# Altium integrated library NSC LDO.IntLib: 1229 symbols (part 19 of 28)
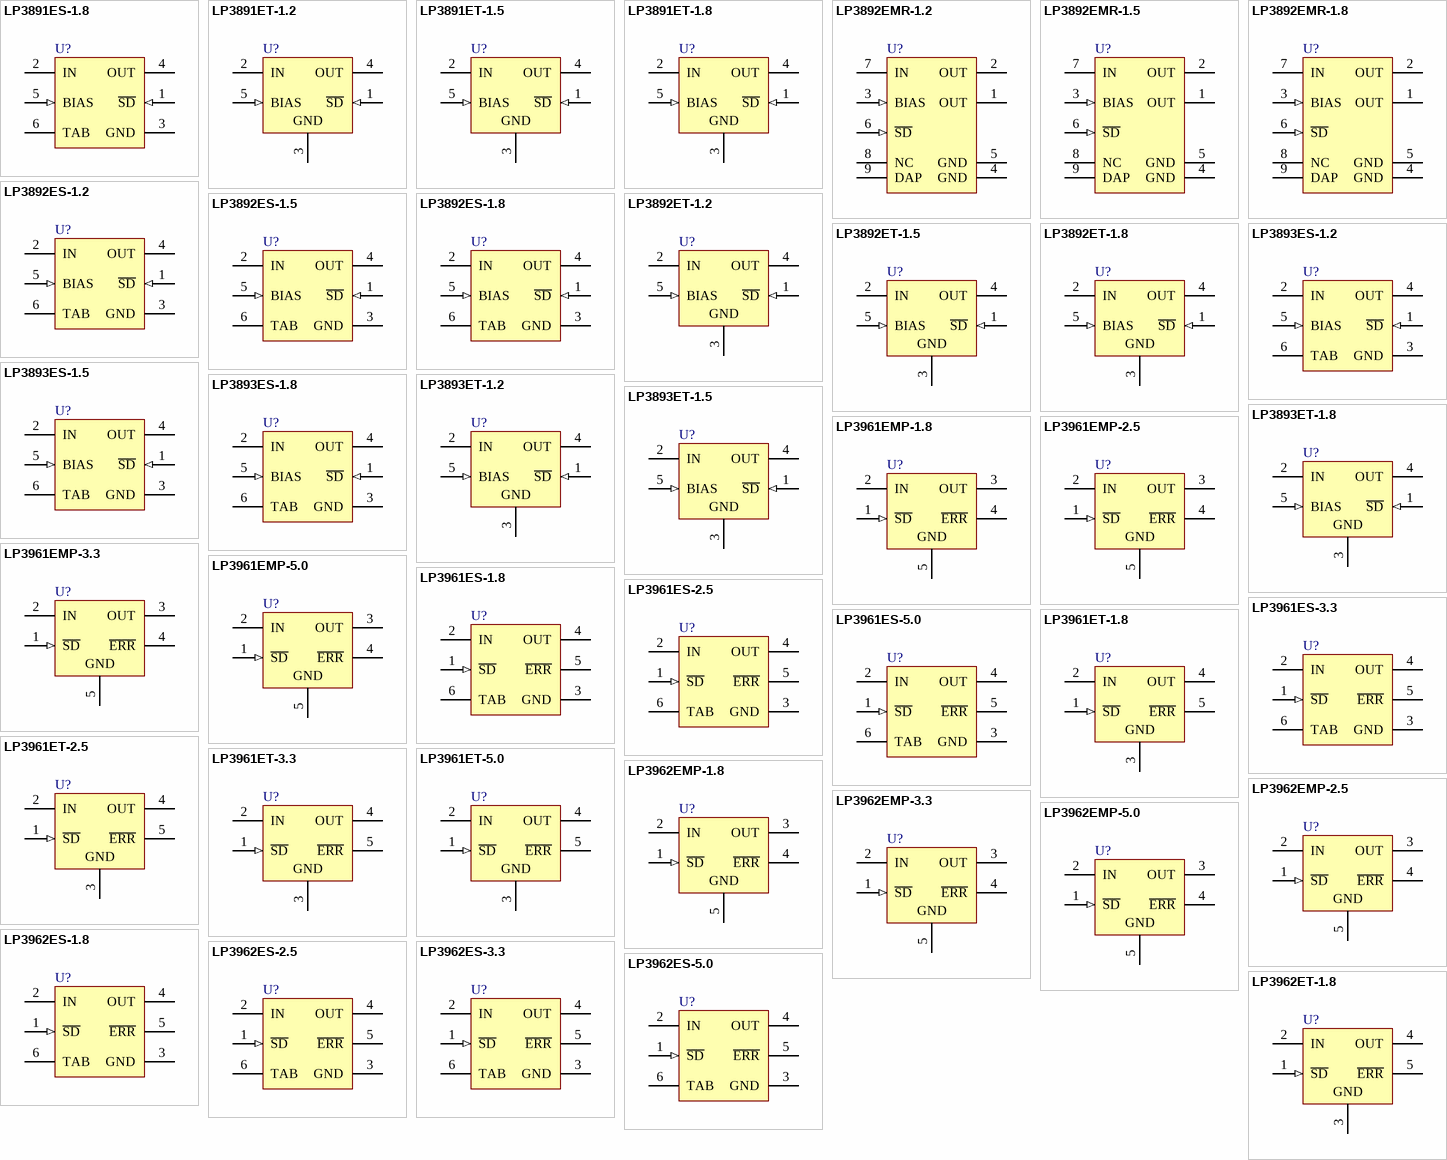
[diagram p49: symbols LP3891ES-1.8 to LP3962ET-1.8]

## LP3892ES-1.2
designator U?
1.5A Fast-Response Ultra Low Dropout Linear Regulators; PartNumber: LP3892ES-1.2; Manufacturer: National Semiconductor; CompType: LDO IC; PackageTopMarking: NSUZXYTTE#*LP3892ES*-1.2; PowerWise: N; Published: 4-Dec-2008; DatasheetVersion: Jun-2006; PackageVersion: revD, Apr-2005; PackageReference: TS5B; Publisher: Altium Limited; PackageDescription: TO-263, Molded, .400 x .390 x .180in, 5 Lead, .067in Pitch, Surface Mount; RoHS: O; PinCount: 5; DigiKeyPartNumber: LP3892ES-1.2-ND; Code_JEDEC: MO-169-AB; ComponentLink1Description: LP3892 Datasheet; ComponentLink1URL: http://www.national.com/ds/LP/LP3892.pdf; ComponentLink2Description: LP3892 Web Page; ComponentLink2URL: http://www.national.com/pf/LP/LP3892.html; ComponentLink3Description: TS5B Package Page; ComponentLink3URL: http://www.national.com/packaging/folders/ts5b.html
footprint TS5B_N (D2-PAK, 6-Leads, Body 8.6x10.2mm, Pitch 1.7mm, Lead Span 14.1mm, IPC Medium Density)
footprint TS5B_L (D2-PAK, 6-Leads, Body 8.6x10.2mm, Pitch 1.7mm, Lead Span 14.1mm, IPC High Density)
footprint TS5B_M (D2-PAK, 6-Leads, Body 8.6x10.2mm, Pitch 1.7mm, Lead Span 14.1mm, IPC Low Density)
pins: 1 ~{SD} (in), 2 IN (power), 3 GND (power), 4 OUT (power), 5 BIAS (in), 6 TAB (power)

## LP3892ES-1.5
designator U?
1.5A Fast-Response Ultra Low Dropout Linear Regulators; PartNumber: LP3892ES-1.5; Manufacturer: National Semiconductor; CompType: LDO IC; PackageTopMarking: NSUZXYTTE#*LP3892ES*-1.5; PowerWise: N; Published: 4-Dec-2008; DatasheetVersion: Jun-2006; PackageVersion: revD, Apr-2005; PackageReference: TS5B; Publisher: Altium Limited; PackageDescription: TO-263, Molded, .400 x .390 x .180in, 5 Lead, .067in Pitch, Surface Mount; RoHS: Y; PinCount: 5; DigiKeyPartNumber: LP3892ES-1.5-ND; Code_JEDEC: MO-169-AB; ComponentLink1Description: LP3892 Datasheet; ComponentLink1URL: http://www.national.com/ds/LP/LP3892.pdf; ComponentLink2Description: LP3892 Web Page; ComponentLink2URL: http://www.national.com/pf/LP/LP3892.html; ComponentLink3Description: TS5B Package Page; ComponentLink3URL: http://www.national.com/packaging/folders/ts5b.html
footprint TS5B_N (D2-PAK, 6-Leads, Body 8.6x10.2mm, Pitch 1.7mm, Lead Span 14.1mm, IPC Medium Density)
footprint TS5B_L (D2-PAK, 6-Leads, Body 8.6x10.2mm, Pitch 1.7mm, Lead Span 14.1mm, IPC High Density)
footprint TS5B_M (D2-PAK, 6-Leads, Body 8.6x10.2mm, Pitch 1.7mm, Lead Span 14.1mm, IPC Low Density)
pins: 1 ~{SD} (in), 2 IN (power), 3 GND (power), 4 OUT (power), 5 BIAS (in), 6 TAB (power)

## LP3892ES-1.8
designator U?
1.5A Fast-Response Ultra Low Dropout Linear Regulators; PartNumber: LP3892ES-1.8; Manufacturer: National Semiconductor; CompType: LDO IC; PackageTopMarking: NSUZXYTTE#*LP3892ES*-1.8; Published: 4-Dec-2008; DatasheetVersion: Jun-2006; PackageVersion: revD, Apr-2005; PackageReference: TS5B; Publisher: Altium Limited; PackageDescription: TO-263, Molded, .400 x .390 x .180in, 5 Lead, .067in Pitch, Surface Mount; RoHS: Y; PinCount: 5; DigiKeyPartNumber: LP3892ES-1.8-ND; Code_JEDEC: MO-169-AB; ComponentLink1Description: LP3892 Datasheet; ComponentLink1URL: http://www.national.com/ds/LP/LP3892.pdf; ComponentLink2Description: LP3892 Web Page; ComponentLink2URL: http://www.national.com/pf/LP/LP3892.html; ComponentLink3Description: TS5B Package Page; ComponentLink3URL: http://www.national.com/packaging/folders/ts5b.html
footprint TS5B_N (D2-PAK, 6-Leads, Body 8.6x10.2mm, Pitch 1.7mm, Lead Span 14.1mm, IPC Medium Density)
footprint TS5B_L (D2-PAK, 6-Leads, Body 8.6x10.2mm, Pitch 1.7mm, Lead Span 14.1mm, IPC High Density)
footprint TS5B_M (D2-PAK, 6-Leads, Body 8.6x10.2mm, Pitch 1.7mm, Lead Span 14.1mm, IPC Low Density)
pins: 1 ~{SD} (in), 2 IN (power), 3 GND (power), 4 OUT (power), 5 BIAS (in), 6 TAB (power)

## LP3892ET-1.2
designator U?
1.5A Fast-Response Ultra Low Dropout Linear Regulators; PartNumber: LP3892ET-1.2; Manufacturer: National Semiconductor; CompType: LDO IC; PackageTopMarking: NSUZXYTTE#*LP3892ET*-1.2; Published: 4-Dec-2008; DatasheetVersion: Jun-2006; PackageVersion: revA, Oct-1989; PackageReference: T05D; Publisher: Altium Limited; PackageDescription: TO-220, Molded, Stagger Bend, 5 Lead; RoHS: Y; PinCount: 5; DigiKeyPartNumber: LP3892ET-1.2-ND; ComponentLink1Description: LP3892 Datasheet; ComponentLink1URL: http://www.national.com/ds/LP/LP3892.pdf; ComponentLink2Description: LP3892 Web Page; ComponentLink2URL: http://www.national.com/pf/LP/LP3892.html; ComponentLink3Description: T05D Package Page; ComponentLink3URL: http://www.national.com/packaging/folders/t05d.html
footprint T05D (TO, Thru-Hole, Vertical, Heatsink Mounted; 5 Bent Staggered Leads; Pitch 1.7 mm)
pins: 1 ~{SD} (in), 2 IN (power), 3 GND (power), 4 OUT (power), 5 BIAS (in)

## LP3892ET-1.5
designator U?
1.5A Fast-Response Ultra Low Dropout Linear Regulators; PartNumber: LP3892ET-1.5; Manufacturer: National Semiconductor; CompType: LDO IC; PackageTopMarking: NSUZXYTTE#*LP3892ET*-1.5; Published: 4-Dec-2008; DatasheetVersion: Jun-2006; PackageVersion: revA, Oct-1989; PackageReference: T05D; Publisher: Altium Limited; PackageDescription: TO-220, Molded, Stagger Bend, 5 Lead; RoHS: Y; PinCount: 5; DigiKeyPartNumber: LP3892ET-1.5-ND; ComponentLink1Description: LP3892 Datasheet; ComponentLink1URL: http://www.national.com/ds/LP/LP3892.pdf; ComponentLink2Description: LP3892 Web Page; ComponentLink2URL: http://www.national.com/pf/LP/LP3892.html; ComponentLink3Description: T05D Package Page; ComponentLink3URL: http://www.national.com/packaging/folders/t05d.html
footprint T05D (TO, Thru-Hole, Vertical, Heatsink Mounted; 5 Bent Staggered Leads; Pitch 1.7 mm)
pins: 1 ~{SD} (in), 2 IN (power), 3 GND (power), 4 OUT (power), 5 BIAS (in)

## LP3892ET-1.8
designator U?
1.5A Fast-Response Ultra Low Dropout Linear Regulators; PartNumber: LP3892ET-1.8; Manufacturer: National Semiconductor; CompType: LDO IC; PackageTopMarking: NSUZXYTTE#*LP3892ET*-1.8; Published: 4-Dec-2008; DatasheetVersion: Jun-2006; PackageVersion: revA, Oct-1989; PackageReference: T05D; Publisher: Altium Limited; PackageDescription: TO-220, Molded, Stagger Bend, 5 Lead; RoHS: Y; PinCount: 5; DigiKeyPartNumber: LP3892ET-1.8-ND; ComponentLink1Description: LP3892 Datasheet; ComponentLink1URL: http://www.national.com/ds/LP/LP3892.pdf; ComponentLink2Description: LP3892 Web Page; ComponentLink2URL: http://www.national.com/pf/LP/LP3892.html; ComponentLink3Description: T05D Package Page; ComponentLink3URL: http://www.national.com/packaging/folders/t05d.html
footprint T05D (TO, Thru-Hole, Vertical, Heatsink Mounted; 5 Bent Staggered Leads; Pitch 1.7 mm)
pins: 1 ~{SD} (in), 2 IN (power), 3 GND (power), 4 OUT (power), 5 BIAS (in)

## LP3893ES-1.2
designator U?
3A Fast-Response Ultra Low Dropout Linear Regulators; PartNumber: LP3893ES-1.2; Manufacturer: National Semiconductor; CompType: LDO IC; PackageTopMarking: NSUZXYTTE#*LP3893ES*-1.2; PowerWise: N; Published: 4-Dec-2008; DatasheetVersion: Jun-2005; PackageVersion: revD, Apr-2005; PackageReference: TS5B; Publisher: Altium Limited; PackageDescription: TO-263, Molded, .400 x .390 x .180in, 5 Lead, .067in Pitch, Surface Mount; RoHS: Y; PinCount: 5; DigiKeyPartNumber: LP3893ES-1.2-ND; Code_JEDEC: MO-169-AB; ComponentLink1Description: LP3893 Datasheet; ComponentLink1URL: http://www.national.com/ds/LP/LP3893.pdf; ComponentLink2Description: LP3893 Web Page; ComponentLink2URL: http://www.national.com/pf/LP/LP3893.html; ComponentLink3Description: TS5B Package Page; ComponentLink3URL: http://www.national.com/packaging/folders/ts5b.html
footprint TS5B_N (D2-PAK, 6-Leads, Body 8.6x10.2mm, Pitch 1.7mm, Lead Span 14.1mm, IPC Medium Density)
footprint TS5B_L (D2-PAK, 6-Leads, Body 8.6x10.2mm, Pitch 1.7mm, Lead Span 14.1mm, IPC High Density)
footprint TS5B_M (D2-PAK, 6-Leads, Body 8.6x10.2mm, Pitch 1.7mm, Lead Span 14.1mm, IPC Low Density)
pins: 1 ~{SD} (in), 2 IN (power), 3 GND (power), 4 OUT (power), 5 BIAS (in), 6 TAB (power)

## LP3893ES-1.5
designator U?
3A Fast-Response Ultra Low Dropout Linear Regulators; PartNumber: LP3893ES-1.5; Manufacturer: National Semiconductor; CompType: LDO IC; PackageTopMarking: NSUZXYTTE#*LP3893ES*-1.5; Published: 4-Dec-2008; DatasheetVersion: Jun-2005; PackageVersion: revD, Apr-2005; PackageReference: TS5B; Publisher: Altium Limited; PackageDescription: TO-263, Molded, .400 x .390 x .180in, 5 Lead, .067in Pitch, Surface Mount; RoHS: Y; PinCount: 5; DigiKeyPartNumber: LP3893ES-1.5-ND; Code_JEDEC: MO-169-AB; ComponentLink1Description: LP3893 Datasheet; ComponentLink1URL: http://www.national.com/ds/LP/LP3893.pdf; ComponentLink2Description: LP3893 Web Page; ComponentLink2URL: http://www.national.com/pf/LP/LP3893.html; ComponentLink3Description: TS5B Package Page; ComponentLink3URL: http://www.national.com/packaging/folders/ts5b.html
footprint TS5B_N (D2-PAK, 6-Leads, Body 8.6x10.2mm, Pitch 1.7mm, Lead Span 14.1mm, IPC Medium Density)
footprint TS5B_L (D2-PAK, 6-Leads, Body 8.6x10.2mm, Pitch 1.7mm, Lead Span 14.1mm, IPC High Density)
footprint TS5B_M (D2-PAK, 6-Leads, Body 8.6x10.2mm, Pitch 1.7mm, Lead Span 14.1mm, IPC Low Density)
pins: 1 ~{SD} (in), 2 IN (power), 3 GND (power), 4 OUT (power), 5 BIAS (in), 6 TAB (power)

## LP3893ES-1.8
designator U?
3A Fast-Response Ultra Low Dropout Linear Regulators; PartNumber: LP3893ES-1.8; Manufacturer: National Semiconductor; CompType: LDO IC; PackageTopMarking: NSUZXYTTE#*LP3893ES*-1.8; Published: 4-Dec-2008; DatasheetVersion: Jun-2005; PackageVersion: revD, Apr-2005; PackageReference: TS5B; Publisher: Altium Limited; PackageDescription: TO-263, Molded, .400 x .390 x .180in, 5 Lead, .067in Pitch, Surface Mount; RoHS: Y; PinCount: 5; DigiKeyPartNumber: LP3893ES-1.8-ND; Code_JEDEC: MO-169-AB; ComponentLink1Description: LP3893 Datasheet; ComponentLink1URL: http://www.national.com/ds/LP/LP3893.pdf; ComponentLink2Description: LP3893 Web Page; ComponentLink2URL: http://www.national.com/pf/LP/LP3893.html; ComponentLink3Description: TS5B Package Page; ComponentLink3URL: http://www.national.com/packaging/folders/ts5b.html
footprint TS5B_N (D2-PAK, 6-Leads, Body 8.6x10.2mm, Pitch 1.7mm, Lead Span 14.1mm, IPC Medium Density)
footprint TS5B_L (D2-PAK, 6-Leads, Body 8.6x10.2mm, Pitch 1.7mm, Lead Span 14.1mm, IPC High Density)
footprint TS5B_M (D2-PAK, 6-Leads, Body 8.6x10.2mm, Pitch 1.7mm, Lead Span 14.1mm, IPC Low Density)
pins: 1 ~{SD} (in), 2 IN (power), 3 GND (power), 4 OUT (power), 5 BIAS (in), 6 TAB (power)

## LP3893ET-1.2
designator U?
3A Fast-Response Ultra Low Dropout Linear Regulators; PartNumber: LP3893ET-1.2; Manufacturer: National Semiconductor; CompType: LDO IC; PackageTopMarking: NSUZXYTTE#*LP3893ET*-1.2; Published: 4-Dec-2008; DatasheetVersion: Jun-2005; PackageVersion: revA, Oct-1989; PackageReference: T05D; Publisher: Altium Limited; PackageDescription: TO-220, Molded, Stagger Bend, 5 Lead; RoHS: Y; PinCount: 5; DigiKeyPartNumber: LP3893ET-1.2-ND; ComponentLink1Description: LP3893 Datasheet; ComponentLink1URL: http://www.national.com/ds/LP/LP3893.pdf; ComponentLink2Description: LP3893 Web Page; ComponentLink2URL: http://www.national.com/pf/LP/LP3893.html; ComponentLink3Description: T05D Package Page; ComponentLink3URL: http://www.national.com/packaging/folders/t05d.html
footprint T05D (TO, Thru-Hole, Vertical, Heatsink Mounted; 5 Bent Staggered Leads; Pitch 1.7 mm)
pins: 1 ~{SD} (in), 2 IN (power), 3 GND (power), 4 OUT (power), 5 BIAS (in)

## LP3893ET-1.5
designator U?
3A Fast-Response Ultra Low Dropout Linear Regulators; PartNumber: LP3893ET-1.5; Manufacturer: National Semiconductor; CompType: LDO IC; PackageTopMarking: NSUZXYTTE#*LP3893ET*-1.5; Published: 4-Dec-2008; DatasheetVersion: Jun-2005; PackageVersion: revA, Oct-1989; PackageReference: T05D; Publisher: Altium Limited; PackageDescription: TO-220, Molded, Stagger Bend, 5 Lead; RoHS: Y; PinCount: 5; DigiKeyPartNumber: LP3893ET-1.5-ND; ComponentLink1Description: LP3893 Datasheet; ComponentLink1URL: http://www.national.com/ds/LP/LP3893.pdf; ComponentLink2Description: LP3893 Web Page; ComponentLink2URL: http://www.national.com/pf/LP/LP3893.html; ComponentLink3Description: T05D Package Page; ComponentLink3URL: http://www.national.com/packaging/folders/t05d.html
footprint T05D (TO, Thru-Hole, Vertical, Heatsink Mounted; 5 Bent Staggered Leads; Pitch 1.7 mm)
pins: 1 ~{SD} (in), 2 IN (power), 3 GND (power), 4 OUT (power), 5 BIAS (in)

## LP3893ET-1.8
designator U?
3A Fast-Response Ultra Low Dropout Linear Regulators; PartNumber: LP3893ET-1.8; Manufacturer: National Semiconductor; CompType: LDO IC; PackageTopMarking: NSUZXYTTE#*LP3893ET*-1.8; Published: 4-Dec-2008; DatasheetVersion: Jun-2005; PackageVersion: revA, Oct-1989; PackageReference: T05D; Publisher: Altium Limited; PackageDescription: TO-220, Molded, Stagger Bend, 5 Lead; RoHS: Y; PinCount: 5; DigiKeyPartNumber: LP3893ET-1.8-ND; ComponentLink1Description: LP3893 Datasheet; ComponentLink1URL: http://www.national.com/ds/LP/LP3893.pdf; ComponentLink2Description: LP3893 Web Page; ComponentLink2URL: http://www.national.com/pf/LP/LP3893.html; ComponentLink3Description: T05D Package Page; ComponentLink3URL: http://www.national.com/packaging/folders/t05d.html
footprint T05D (TO, Thru-Hole, Vertical, Heatsink Mounted; 5 Bent Staggered Leads; Pitch 1.7 mm)
pins: 1 ~{SD} (in), 2 IN (power), 3 GND (power), 4 OUT (power), 5 BIAS (in)

## LP3961EMP-1.8
designator U?
800mA Fast Ultra Low Dropout Linear Regulator; PartNumber: LP3961EMP-1.8; Manufacturer: National Semiconductor; CompType: LDO IC; PackageTopMarking: XYTT*LBAB; PowerWise: N; Published: 4-Dec-2008; DatasheetVersion: Sep-2006; PackageVersion: revA, Jan-2000; PackageReference: MP05A; Publisher: Altium Limited; PackageDescription: Moldec SOT-223, 6.50 x 3.56 x 1.6mm Body, 5 Lead, 1.5mm Pitch; RoHS: Y; PinCount: 5; DigiKeyPartNumber: LP3961EMP-1.8CT-ND; Code_JEDEC: TO-261-AB; Code_IPC: SOT223-5; ComponentLink1Description: LP3961 Datasheet; ComponentLink1URL: http://www.national.com/ds/LP/LP3961.pdf; ComponentLink2Description: LP3961 Web Page; ComponentLink2URL: http://www.national.com/pf/LP/LP3961.html; ComponentLink3Description: MP05A Package Page; ComponentLink3URL: http://www.national.com/packaging/folders/mp05a.html
footprint MP05A_N (SOT223, 5-Leads, Body 6.5x3.5mm, Pitch 1.5mm, Lead Span 7mm, IPC Medium Density)
footprint MP05A_L (SOT223, 5-Leads, Body 6.5x3.5mm, Pitch 1.5mm, Lead Span 7mm, IPC High Density)
footprint MP05A_M (SOT223, 5-Leads, Body 6.5x3.5mm, Pitch 1.5mm, Lead Span 7mm, IPC Low Density)
pins: 1 ~{SD} (in), 2 IN (power), 3 OUT (power), 4 ~{ERR} (oc), 5 GND (power)

## LP3961EMP-2.5
designator U?
800mA Fast Ultra Low Dropout Linear Regulator; PartNumber: LP3961EMP-2.5; Manufacturer: National Semiconductor; CompType: LDO IC; PackageTopMarking: XYTT*LBBB; PowerWise: N; Published: 4-Dec-2008; DatasheetVersion: Sep-2006; PackageVersion: revA, Jan-2000; PackageReference: MP05A; Publisher: Altium Limited; PackageDescription: Moldec SOT-223, 6.50 x 3.56 x 1.6mm Body, 5 Lead, 1.5mm Pitch; RoHS: O; PinCount: 5; DigiKeyPartNumber: LP3961EMP-2.5CT-ND; Code_JEDEC: TO-261-AB; Code_IPC: SOT223-5; ComponentLink1Description: LP3961 Datasheet; ComponentLink1URL: http://www.national.com/ds/LP/LP3961.pdf; ComponentLink2Description: LP3961 Web Page; ComponentLink2URL: http://www.national.com/pf/LP/LP3961.html; ComponentLink3Description: MP05A Package Page; ComponentLink3URL: http://www.national.com/packaging/folders/mp05a.html
footprint MP05A_N (SOT223, 5-Leads, Body 6.5x3.5mm, Pitch 1.5mm, Lead Span 7mm, IPC Medium Density)
footprint MP05A_L (SOT223, 5-Leads, Body 6.5x3.5mm, Pitch 1.5mm, Lead Span 7mm, IPC High Density)
footprint MP05A_M (SOT223, 5-Leads, Body 6.5x3.5mm, Pitch 1.5mm, Lead Span 7mm, IPC Low Density)
pins: 1 ~{SD} (in), 2 IN (power), 3 OUT (power), 4 ~{ERR} (oc), 5 GND (power)

## LP3961EMP-3.3
designator U?
800mA Fast Ultra Low Dropout Linear Regulator; PartNumber: LP3961EMP-3.3; Manufacturer: National Semiconductor; CompType: LDO IC; PackageTopMarking: XYTT*LAZB; PowerWise: N; Published: 4-Dec-2008; DatasheetVersion: Sep-2006; PackageVersion: revA, Jan-2000; PackageReference: MP05A; Publisher: Altium Limited; PackageDescription: Moldec SOT-223, 6.50 x 3.56 x 1.6mm Body, 5 Lead, 1.5mm Pitch; RoHS: O; PinCount: 5; DigiKeyPartNumber: LP3961EMP-3.3CT-ND; Code_JEDEC: TO-261-AB; Code_IPC: SOT223-5; ComponentLink1Description: LP3961 Datasheet; ComponentLink1URL: http://www.national.com/ds/LP/LP3961.pdf; ComponentLink2Description: LP3961 Web Page; ComponentLink2URL: http://www.national.com/pf/LP/LP3961.html; ComponentLink3Description: MP05A Package Page; ComponentLink3URL: http://www.national.com/packaging/folders/mp05a.html
footprint MP05A_N (SOT223, 5-Leads, Body 6.5x3.5mm, Pitch 1.5mm, Lead Span 7mm, IPC Medium Density)
footprint MP05A_L (SOT223, 5-Leads, Body 6.5x3.5mm, Pitch 1.5mm, Lead Span 7mm, IPC High Density)
footprint MP05A_M (SOT223, 5-Leads, Body 6.5x3.5mm, Pitch 1.5mm, Lead Span 7mm, IPC Low Density)
pins: 1 ~{SD} (in), 2 IN (power), 3 OUT (power), 4 ~{ERR} (oc), 5 GND (power)

## LP3961EMP-5.0
designator U?
800mA Fast Ultra Low Dropout Linear Regulator; PartNumber: LP3961EMP-5.0; Manufacturer: National Semiconductor; CompType: LDO IC; PackageTopMarking: XYTT*LBSB; PowerWise: N; Published: 4-Dec-2008; DatasheetVersion: Sep-2006; PackageVersion: revA, Jan-2000; PackageReference: MP05A; Publisher: Altium Limited; PackageDescription: Moldec SOT-223, 6.50 x 3.56 x 1.6mm Body, 5 Lead, 1.5mm Pitch; RoHS: O; PinCount: 5; DigiKeyPartNumber: LP3961EMP-5.0CT-ND; Code_JEDEC: TO-261-AB; Code_IPC: SOT223-5; ComponentLink1Description: LP3961 Datasheet; ComponentLink1URL: http://www.national.com/ds/LP/LP3961.pdf; ComponentLink2Description: LP3961 Web Page; ComponentLink2URL: http://www.national.com/pf/LP/LP3961.html; ComponentLink3Description: MP05A Package Page; ComponentLink3URL: http://www.national.com/packaging/folders/mp05a.html
footprint MP05A_N (SOT223, 5-Leads, Body 6.5x3.5mm, Pitch 1.5mm, Lead Span 7mm, IPC Medium Density)
footprint MP05A_L (SOT223, 5-Leads, Body 6.5x3.5mm, Pitch 1.5mm, Lead Span 7mm, IPC High Density)
footprint MP05A_M (SOT223, 5-Leads, Body 6.5x3.5mm, Pitch 1.5mm, Lead Span 7mm, IPC Low Density)
pins: 1 ~{SD} (in), 2 IN (power), 3 OUT (power), 4 ~{ERR} (oc), 5 GND (power)

## LP3961ES-1.8
designator U?
800mA Fast Ultra Low Dropout Linear Regulator; PartNumber: LP3961ES-1.8; Manufacturer: National Semiconductor; CompType: LDO IC; PackageTopMarking: NSUZXYTTE#*LP3961ES*-1.8; PowerWise: N; Published: 4-Dec-2008; DatasheetVersion: Sep-2006; PackageVersion: revD, Apr-2005; PackageReference: TS5B; Publisher: Altium Limited; PackageDescription: TO-263, Molded, .400 x .390 x .180in, 5 Lead, .067in Pitch, Surface Mount; RoHS: O; PinCount: 5; DigiKeyPartNumber: LP3961ES-1.8-ND; Code_JEDEC: MO-169-AB; ComponentLink1Description: LP3961 Datasheet; ComponentLink1URL: http://www.national.com/ds/LP/LP3961.pdf; ComponentLink2Description: LP3961 Web Page; ComponentLink2URL: http://www.national.com/pf/LP/LP3961.html; ComponentLink3Description: TS5B Package Page; ComponentLink3URL: http://www.national.com/packaging/folders/ts5b.html
footprint TS5B_N (D2-PAK, 6-Leads, Body 8.6x10.2mm, Pitch 1.7mm, Lead Span 14.1mm, IPC Medium Density)
footprint TS5B_L (D2-PAK, 6-Leads, Body 8.6x10.2mm, Pitch 1.7mm, Lead Span 14.1mm, IPC High Density)
footprint TS5B_M (D2-PAK, 6-Leads, Body 8.6x10.2mm, Pitch 1.7mm, Lead Span 14.1mm, IPC Low Density)
pins: 1 ~{SD} (in), 2 IN (power), 3 GND (power), 4 OUT (power), 5 ~{ERR} (oc), 6 TAB (power)

## LP3961ES-2.5
designator U?
800mA Fast Ultra Low Dropout Linear Regulator; PartNumber: LP3961ES-2.5; Manufacturer: National Semiconductor; CompType: LDO IC; PackageTopMarking: NSUZXYTTE#*LP3961ES*-2.5; PowerWise: N; Published: 4-Dec-2008; DatasheetVersion: Sep-2006; PackageVersion: revD, Apr-2005; PackageReference: TS5B; Publisher: Altium Limited; PackageDescription: TO-263, Molded, .400 x .390 x .180in, 5 Lead, .067in Pitch, Surface Mount; RoHS: O; PinCount: 5; DigiKeyPartNumber: LP3961ES-2.5-ND; Code_JEDEC: MO-169-AB; ComponentLink1Description: LP3961 Datasheet; ComponentLink1URL: http://www.national.com/ds/LP/LP3961.pdf; ComponentLink2Description: LP3961 Web Page; ComponentLink2URL: http://www.national.com/pf/LP/LP3961.html; ComponentLink3Description: TS5B Package Page; ComponentLink3URL: http://www.national.com/packaging/folders/ts5b.html
footprint TS5B_N (D2-PAK, 6-Leads, Body 8.6x10.2mm, Pitch 1.7mm, Lead Span 14.1mm, IPC Medium Density)
footprint TS5B_L (D2-PAK, 6-Leads, Body 8.6x10.2mm, Pitch 1.7mm, Lead Span 14.1mm, IPC High Density)
footprint TS5B_M (D2-PAK, 6-Leads, Body 8.6x10.2mm, Pitch 1.7mm, Lead Span 14.1mm, IPC Low Density)
pins: 1 ~{SD} (in), 2 IN (power), 3 GND (power), 4 OUT (power), 5 ~{ERR} (oc), 6 TAB (power)

## LP3961ES-3.3
designator U?
800mA Fast Ultra Low Dropout Linear Regulator; PartNumber: LP3961ES-3.3; Manufacturer: National Semiconductor; CompType: LDO IC; PackageTopMarking: NSUZXYTTE#*LP3961ES*-3.3; PowerWise: N; Published: 4-Dec-2008; DatasheetVersion: Sep-2006; PackageVersion: revD, Apr-2005; PackageReference: TS5B; Publisher: Altium Limited; PackageDescription: TO-263, Molded, .400 x .390 x .180in, 5 Lead, .067in Pitch, Surface Mount; RoHS: Y; PinCount: 5; DigiKeyPartNumber: LP3961ES-3.3-ND; Code_JEDEC: MO-169-AB; ComponentLink1Description: LP3961 Datasheet; ComponentLink1URL: http://www.national.com/ds/LP/LP3961.pdf; ComponentLink2Description: LP3961 Web Page; ComponentLink2URL: http://www.national.com/pf/LP/LP3961.html; ComponentLink3Description: TS5B Package Page; ComponentLink3URL: http://www.national.com/packaging/folders/ts5b.html
footprint TS5B_N (D2-PAK, 6-Leads, Body 8.6x10.2mm, Pitch 1.7mm, Lead Span 14.1mm, IPC Medium Density)
footprint TS5B_L (D2-PAK, 6-Leads, Body 8.6x10.2mm, Pitch 1.7mm, Lead Span 14.1mm, IPC High Density)
footprint TS5B_M (D2-PAK, 6-Leads, Body 8.6x10.2mm, Pitch 1.7mm, Lead Span 14.1mm, IPC Low Density)
pins: 1 ~{SD} (in), 2 IN (power), 3 GND (power), 4 OUT (power), 5 ~{ERR} (oc), 6 TAB (power)

## LP3961ES-5.0
designator U?
800mA Fast Ultra Low Dropout Linear Regulator; PartNumber: LP3961ES-5.0; Manufacturer: National Semiconductor; CompType: LDO IC; PackageTopMarking: NSUZXYTTE#*LP3961ES*-5.0; Published: 4-Dec-2008; DatasheetVersion: Sep-2006; PackageVersion: revD, Apr-2005; PackageReference: TS5B; Publisher: Altium Limited; PackageDescription: TO-263, Molded, .400 x .390 x .180in, 5 Lead, .067in Pitch, Surface Mount; RoHS: Y; PinCount: 5; DigiKeyPartNumber: LP3961ES-5.0-ND; Code_JEDEC: MO-169-AB; ComponentLink1Description: LP3961 Datasheet; ComponentLink1URL: http://www.national.com/ds/LP/LP3961.pdf; ComponentLink2Description: LP3961 Web Page; ComponentLink2URL: http://www.national.com/pf/LP/LP3961.html; ComponentLink3Description: TS5B Package Page; ComponentLink3URL: http://www.national.com/packaging/folders/ts5b.html
footprint TS5B_N (D2-PAK, 6-Leads, Body 8.6x10.2mm, Pitch 1.7mm, Lead Span 14.1mm, IPC Medium Density)
footprint TS5B_L (D2-PAK, 6-Leads, Body 8.6x10.2mm, Pitch 1.7mm, Lead Span 14.1mm, IPC High Density)
footprint TS5B_M (D2-PAK, 6-Leads, Body 8.6x10.2mm, Pitch 1.7mm, Lead Span 14.1mm, IPC Low Density)
pins: 1 ~{SD} (in), 2 IN (power), 3 GND (power), 4 OUT (power), 5 ~{ERR} (oc), 6 TAB (power)

## LP3961ET-1.8
designator U?
800mA Fast Ultra Low Dropout Linear Regulator; PartNumber: LP3961ET-1.8; Manufacturer: National Semiconductor; CompType: LDO IC; PackageTopMarking: NSUZXYTTE#*LP3961ET*-1.8; Published: 4-Dec-2008; DatasheetVersion: Sep-2006; PackageVersion: revA, Oct-1989; PackageReference: T05D; Publisher: Altium Limited; PackageDescription: TO-220, Molded, Stagger Bend, 5 Lead; RoHS: Y; PinCount: 5; DigiKeyPartNumber: LP3961ET-1.8-ND; ComponentLink1Description: LP3961 Datasheet; ComponentLink1URL: http://www.national.com/ds/LP/LP3961.pdf; ComponentLink2Description: LP3961 Web Page; ComponentLink2URL: http://www.national.com/pf/LP/LP3961.html; ComponentLink3Description: T05D Package Page; ComponentLink3URL: http://www.national.com/packaging/folders/t05d.html
footprint T05D (TO, Thru-Hole, Vertical, Heatsink Mounted; 5 Bent Staggered Leads; Pitch 1.7 mm)
pins: 1 ~{SD} (in), 2 IN (power), 3 GND (power), 4 OUT (power), 5 ~{ERR} (oc)

## LP3961ET-2.5
designator U?
800mA Fast Ultra Low Dropout Linear Regulator; PartNumber: LP3961ET-2.5; Manufacturer: National Semiconductor; CompType: LDO IC; PackageTopMarking: NSUZXYTTE#*LP3961ET*-2.5; Published: 4-Dec-2008; DatasheetVersion: Sep-2006; PackageVersion: revA, Oct-1989; PackageReference: T05D; Publisher: Altium Limited; PackageDescription: TO-220, Molded, Stagger Bend, 5 Lead; RoHS: Y; PinCount: 5; DigiKeyPartNumber: LP3961ET-2.5-ND; ComponentLink1Description: LP3961 Datasheet; ComponentLink1URL: http://www.national.com/ds/LP/LP3961.pdf; ComponentLink2Description: LP3961 Web Page; ComponentLink2URL: http://www.national.com/pf/LP/LP3961.html; ComponentLink3Description: T05D Package Page; ComponentLink3URL: http://www.national.com/packaging/folders/t05d.html
footprint T05D (TO, Thru-Hole, Vertical, Heatsink Mounted; 5 Bent Staggered Leads; Pitch 1.7 mm)
pins: 1 ~{SD} (in), 2 IN (power), 3 GND (power), 4 OUT (power), 5 ~{ERR} (oc)

## LP3961ET-3.3
designator U?
800mA Fast Ultra Low Dropout Linear Regulator; PartNumber: LP3961ET-3.3; Manufacturer: National Semiconductor; CompType: LDO IC; PackageTopMarking: NSUZXYTTE#*LP3961ET*-3.3; Published: 4-Dec-2008; DatasheetVersion: Sep-2006; PackageVersion: revA, Oct-1989; PackageReference: T05D; Publisher: Altium Limited; PackageDescription: TO-220, Molded, Stagger Bend, 5 Lead; RoHS: Y; PinCount: 5; DigiKeyPartNumber: LP3961ET-3.3-ND; ComponentLink1Description: LP3961 Datasheet; ComponentLink1URL: http://www.national.com/ds/LP/LP3961.pdf; ComponentLink2Description: LP3961 Web Page; ComponentLink2URL: http://www.national.com/pf/LP/LP3961.html; ComponentLink3Description: T05D Package Page; ComponentLink3URL: http://www.national.com/packaging/folders/t05d.html
footprint T05D (TO, Thru-Hole, Vertical, Heatsink Mounted; 5 Bent Staggered Leads; Pitch 1.7 mm)
pins: 1 ~{SD} (in), 2 IN (power), 3 GND (power), 4 OUT (power), 5 ~{ERR} (oc)

## LP3961ET-5.0
designator U?
800mA Fast Ultra Low Dropout Linear Regulator; PartNumber: LP3961ET-5.0; Manufacturer: National Semiconductor; CompType: LDO IC; PackageTopMarking: NSUZXYTTE#*LP3961ET*-5.0; Published: 4-Dec-2008; DatasheetVersion: Sep-2006; PackageVersion: revA, Oct-1989; PackageReference: T05D; Publisher: Altium Limited; PackageDescription: TO-220, Molded, Stagger Bend, 5 Lead; RoHS: Y; PinCount: 5; DigiKeyPartNumber: LP3961ET-5.0-ND; ComponentLink1Description: LP3961 Datasheet; ComponentLink1URL: http://www.national.com/ds/LP/LP3961.pdf; ComponentLink2Description: LP3961 Web Page; ComponentLink2URL: http://www.national.com/pf/LP/LP3961.html; ComponentLink3Description: T05D Package Page; ComponentLink3URL: http://www.national.com/packaging/folders/t05d.html
footprint T05D (TO, Thru-Hole, Vertical, Heatsink Mounted; 5 Bent Staggered Leads; Pitch 1.7 mm)
pins: 1 ~{SD} (in), 2 IN (power), 3 GND (power), 4 OUT (power), 5 ~{ERR} (oc)

## LP3962EMP-1.8
designator U?
1.5A Fast Ultra Low Dropout Linear Regulator; PartNumber: LP3962EMP-1.8; Manufacturer: National Semiconductor; CompType: LDO IC; PackageTopMarking: XYTT*LBCB; PowerWise: N; Published: 4-Dec-2008; DatasheetVersion: Sep-2006; PackageVersion: revA, Jan-2000; PackageReference: MP05A; Publisher: Altium Limited; PackageDescription: Moldec SOT-223, 6.50 x 3.56 x 1.6mm Body, 5 Lead, 1.5mm Pitch; RoHS: Y; PinCount: 5; DigiKeyPartNumber: LP3962EMP-1.8CT-ND; Code_JEDEC: TO-261-AB; Code_IPC: SOT223-5; ComponentLink1Description: LP3962 Datasheet; ComponentLink1URL: http://www.national.com/ds/LP/LP3962.pdf; ComponentLink2Description: LP3962 Web Page; ComponentLink2URL: http://www.national.com/pf/LP/LP3962.html; ComponentLink3Description: MP05A Package Page; ComponentLink3URL: http://www.national.com/packaging/folders/mp05a.html
footprint MP05A_N (SOT223, 5-Leads, Body 6.5x3.5mm, Pitch 1.5mm, Lead Span 7mm, IPC Medium Density)
footprint MP05A_L (SOT223, 5-Leads, Body 6.5x3.5mm, Pitch 1.5mm, Lead Span 7mm, IPC High Density)
footprint MP05A_M (SOT223, 5-Leads, Body 6.5x3.5mm, Pitch 1.5mm, Lead Span 7mm, IPC Low Density)
pins: 1 ~{SD} (in), 2 IN (power), 3 OUT (power), 4 ~{ERR} (oc), 5 GND (power)

## LP3962EMP-2.5
designator U?
1.5A Fast Ultra Low Dropout Linear Regulator; PartNumber: LP3962EMP-2.5; Manufacturer: National Semiconductor; CompType: LDO IC; PackageTopMarking: XYTT*LBDB; PowerWise: N; Published: 4-Dec-2008; DatasheetVersion: Sep-2006; PackageVersion: revA, Jan-2000; PackageReference: MP05A; Publisher: Altium Limited; PackageDescription: Moldec SOT-223, 6.50 x 3.56 x 1.6mm Body, 5 Lead, 1.5mm Pitch; RoHS: O; PinCount: 5; DigiKeyPartNumber: LP3962EMP-2.5CT-ND; Code_JEDEC: TO-261-AB; Code_IPC: SOT223-5; ComponentLink1Description: LP3962 Datasheet; ComponentLink1URL: http://www.national.com/ds/LP/LP3962.pdf; ComponentLink2Description: LP3962 Web Page; ComponentLink2URL: http://www.national.com/pf/LP/LP3962.html; ComponentLink3Description: MP05A Package Page; ComponentLink3URL: http://www.national.com/packaging/folders/mp05a.html
footprint MP05A_N (SOT223, 5-Leads, Body 6.5x3.5mm, Pitch 1.5mm, Lead Span 7mm, IPC Medium Density)
footprint MP05A_L (SOT223, 5-Leads, Body 6.5x3.5mm, Pitch 1.5mm, Lead Span 7mm, IPC High Density)
footprint MP05A_M (SOT223, 5-Leads, Body 6.5x3.5mm, Pitch 1.5mm, Lead Span 7mm, IPC Low Density)
pins: 1 ~{SD} (in), 2 IN (power), 3 OUT (power), 4 ~{ERR} (oc), 5 GND (power)

## LP3962EMP-3.3
designator U?
1.5A Fast Ultra Low Dropout Linear Regulator; PartNumber: LP3962EMP-3.3; Manufacturer: National Semiconductor; CompType: LDO IC; PackageTopMarking: XYTT*LBEB; PowerWise: N; Published: 4-Dec-2008; DatasheetVersion: Sep-2006; PackageVersion: revA, Jan-2000; PackageReference: MP05A; Publisher: Altium Limited; PackageDescription: Moldec SOT-223, 6.50 x 3.56 x 1.6mm Body, 5 Lead, 1.5mm Pitch; RoHS: O; PinCount: 5; DigiKeyPartNumber: LP3962EMP-3.3CT-ND; Code_JEDEC: TO-261-AB; Code_IPC: SOT223-5; ComponentLink1Description: LP3962 Datasheet; ComponentLink1URL: http://www.national.com/ds/LP/LP3962.pdf; ComponentLink2Description: LP3962 Web Page; ComponentLink2URL: http://www.national.com/pf/LP/LP3962.html; ComponentLink3Description: MP05A Package Page; ComponentLink3URL: http://www.national.com/packaging/folders/mp05a.html
footprint MP05A_N (SOT223, 5-Leads, Body 6.5x3.5mm, Pitch 1.5mm, Lead Span 7mm, IPC Medium Density)
footprint MP05A_L (SOT223, 5-Leads, Body 6.5x3.5mm, Pitch 1.5mm, Lead Span 7mm, IPC High Density)
footprint MP05A_M (SOT223, 5-Leads, Body 6.5x3.5mm, Pitch 1.5mm, Lead Span 7mm, IPC Low Density)
pins: 1 ~{SD} (in), 2 IN (power), 3 OUT (power), 4 ~{ERR} (oc), 5 GND (power)

## LP3962EMP-5.0
designator U?
1.5A Fast Ultra Low Dropout Linear Regulator; PartNumber: LP3962EMP-5.0; Manufacturer: National Semiconductor; CompType: LDO IC; PackageTopMarking: XYTT*LBTB; Published: 4-Dec-2008; DatasheetVersion: Sep-2006; PackageVersion: revA, Jan-2000; PackageReference: MP05A; Publisher: Altium Limited; PackageDescription: Moldec SOT-223, 6.50 x 3.56 x 1.6mm Body, 5 Lead, 1.5mm Pitch; RoHS: Y; PinCount: 5; DigiKeyPartNumber: LP3962EMP-5.0CT-ND; Code_JEDEC: TO-261-AB; Code_IPC: SOT223-5; ComponentLink1Description: LP3962 Datasheet; ComponentLink1URL: http://www.national.com/ds/LP/LP3962.pdf; ComponentLink2Description: LP3962 Web Page; ComponentLink2URL: http://www.national.com/pf/LP/LP3962.html; ComponentLink3Description: MP05A Package Page; ComponentLink3URL: http://www.national.com/packaging/folders/mp05a.html
footprint MP05A_N (SOT223, 5-Leads, Body 6.5x3.5mm, Pitch 1.5mm, Lead Span 7mm, IPC Medium Density)
footprint MP05A_L (SOT223, 5-Leads, Body 6.5x3.5mm, Pitch 1.5mm, Lead Span 7mm, IPC High Density)
footprint MP05A_M (SOT223, 5-Leads, Body 6.5x3.5mm, Pitch 1.5mm, Lead Span 7mm, IPC Low Density)
pins: 1 ~{SD} (in), 2 IN (power), 3 OUT (power), 4 ~{ERR} (oc), 5 GND (power)

## LP3962ES-1.8
designator U?
1.5A Fast Ultra Low Dropout Linear Regulator; PartNumber: LP3962ES-1.8; Manufacturer: National Semiconductor; CompType: LDO IC; PackageTopMarking: NSUZXYTTE#*LP3962ES*-1.8; PowerWise: N; Published: 4-Dec-2008; DatasheetVersion: Sep-2006; PackageVersion: revD, Apr-2005; PackageReference: TS5B; Publisher: Altium Limited; PackageDescription: TO-263, Molded, .400 x .390 x .180in, 5 Lead, .067in Pitch, Surface Mount; RoHS: O; PinCount: 5; DigiKeyPartNumber: LP3962ES-1.8-ND; Code_JEDEC: MO-169-AB; ComponentLink1Description: LP3962 Datasheet; ComponentLink1URL: http://www.national.com/ds/LP/LP3962.pdf; ComponentLink2Description: LP3962 Web Page; ComponentLink2URL: http://www.national.com/pf/LP/LP3962.html; ComponentLink3Description: TS5B Package Page; ComponentLink3URL: http://www.national.com/packaging/folders/ts5b.html
footprint TS5B_N (D2-PAK, 6-Leads, Body 8.6x10.2mm, Pitch 1.7mm, Lead Span 14.1mm, IPC Medium Density)
footprint TS5B_L (D2-PAK, 6-Leads, Body 8.6x10.2mm, Pitch 1.7mm, Lead Span 14.1mm, IPC High Density)
footprint TS5B_M (D2-PAK, 6-Leads, Body 8.6x10.2mm, Pitch 1.7mm, Lead Span 14.1mm, IPC Low Density)
pins: 1 ~{SD} (in), 2 IN (power), 3 GND (power), 4 OUT (power), 5 ~{ERR} (oc), 6 TAB (power)

## LP3962ES-2.5
designator U?
1.5A Fast Ultra Low Dropout Linear Regulator; PartNumber: LP3962ES-2.5; Manufacturer: National Semiconductor; CompType: LDO IC; PackageTopMarking: NSUZXYTTE#*LP3962ES*-2.5; PowerWise: N; Published: 4-Dec-2008; DatasheetVersion: Sep-2006; PackageVersion: revD, Apr-2005; PackageReference: TS5B; Publisher: Altium Limited; PackageDescription: TO-263, Molded, .400 x .390 x .180in, 5 Lead, .067in Pitch, Surface Mount; RoHS: O; PinCount: 5; DigiKeyPartNumber: LP3962ES-2.5-ND; Code_JEDEC: MO-169-AB; ComponentLink1Description: LP3962 Datasheet; ComponentLink1URL: http://www.national.com/ds/LP/LP3962.pdf; ComponentLink2Description: LP3962 Web Page; ComponentLink2URL: http://www.national.com/pf/LP/LP3962.html; ComponentLink3Description: TS5B Package Page; ComponentLink3URL: http://www.national.com/packaging/folders/ts5b.html
footprint TS5B_N (D2-PAK, 6-Leads, Body 8.6x10.2mm, Pitch 1.7mm, Lead Span 14.1mm, IPC Medium Density)
footprint TS5B_L (D2-PAK, 6-Leads, Body 8.6x10.2mm, Pitch 1.7mm, Lead Span 14.1mm, IPC High Density)
footprint TS5B_M (D2-PAK, 6-Leads, Body 8.6x10.2mm, Pitch 1.7mm, Lead Span 14.1mm, IPC Low Density)
pins: 1 ~{SD} (in), 2 IN (power), 3 GND (power), 4 OUT (power), 5 ~{ERR} (oc), 6 TAB (power)

## LP3962ES-3.3
designator U?
1.5A Fast Ultra Low Dropout Linear Regulator; PartNumber: LP3962ES-3.3; Manufacturer: National Semiconductor; CompType: LDO IC; PackageTopMarking: NSUZXYTTE#*LP3962ES*-3.3; PowerWise: N; Published: 4-Dec-2008; DatasheetVersion: Sep-2006; PackageVersion: revD, Apr-2005; PackageReference: TS5B; Publisher: Altium Limited; PackageDescription: TO-263, Molded, .400 x .390 x .180in, 5 Lead, .067in Pitch, Surface Mount; RoHS: O; PinCount: 5; DigiKeyPartNumber: LP3962ES-3.3-ND; Code_JEDEC: MO-169-AB; ComponentLink1Description: LP3962 Datasheet; ComponentLink1URL: http://www.national.com/ds/LP/LP3962.pdf; ComponentLink2Description: LP3962 Web Page; ComponentLink2URL: http://www.national.com/pf/LP/LP3962.html; ComponentLink3Description: TS5B Package Page; ComponentLink3URL: http://www.national.com/packaging/folders/ts5b.html
footprint TS5B_N (D2-PAK, 6-Leads, Body 8.6x10.2mm, Pitch 1.7mm, Lead Span 14.1mm, IPC Medium Density)
footprint TS5B_L (D2-PAK, 6-Leads, Body 8.6x10.2mm, Pitch 1.7mm, Lead Span 14.1mm, IPC High Density)
footprint TS5B_M (D2-PAK, 6-Leads, Body 8.6x10.2mm, Pitch 1.7mm, Lead Span 14.1mm, IPC Low Density)
pins: 1 ~{SD} (in), 2 IN (power), 3 GND (power), 4 OUT (power), 5 ~{ERR} (oc), 6 TAB (power)

## LP3962ES-5.0
designator U?
1.5A Fast Ultra Low Dropout Linear Regulator; PartNumber: LP3962ES-5.0; Manufacturer: National Semiconductor; CompType: LDO IC; PackageTopMarking: NSUZXYTTE#*LP3962ES*-5.0; Published: 4-Dec-2008; DatasheetVersion: Sep-2006; PackageVersion: revD, Apr-2005; PackageReference: TS5B; Publisher: Altium Limited; PackageDescription: TO-263, Molded, .400 x .390 x .180in, 5 Lead, .067in Pitch, Surface Mount; RoHS: Y; PinCount: 5; DigiKeyPartNumber: LP3962ES-5.0-ND; Code_JEDEC: MO-169-AB; ComponentLink1Description: LP3962 Datasheet; ComponentLink1URL: http://www.national.com/ds/LP/LP3962.pdf; ComponentLink2Description: LP3962 Web Page; ComponentLink2URL: http://www.national.com/pf/LP/LP3962.html; ComponentLink3Description: TS5B Package Page; ComponentLink3URL: http://www.national.com/packaging/folders/ts5b.html
footprint TS5B_N (D2-PAK, 6-Leads, Body 8.6x10.2mm, Pitch 1.7mm, Lead Span 14.1mm, IPC Medium Density)
footprint TS5B_L (D2-PAK, 6-Leads, Body 8.6x10.2mm, Pitch 1.7mm, Lead Span 14.1mm, IPC High Density)
footprint TS5B_M (D2-PAK, 6-Leads, Body 8.6x10.2mm, Pitch 1.7mm, Lead Span 14.1mm, IPC Low Density)
pins: 1 ~{SD} (in), 2 IN (power), 3 GND (power), 4 OUT (power), 5 ~{ERR} (oc), 6 TAB (power)

## LP3962ET-1.8
designator U?
1.5A Fast Ultra Low Dropout Linear Regulator; PartNumber: LP3962ET-1.8; Manufacturer: National Semiconductor; CompType: LDO IC; PackageTopMarking: NSUZXYTTE#*LP3962ET*-1.8; Published: 4-Dec-2008; DatasheetVersion: Sep-2006; PackageVersion: revA, Oct-1989; PackageReference: T05D; Publisher: Altium Limited; PackageDescription: TO-220, Molded, Stagger Bend, 5 Lead; RoHS: N; PinCount: 5; DigiKeyPartNumber: LP3962ET-1.8-ND; ComponentLink1Description: LP3962 Datasheet; ComponentLink1URL: http://www.national.com/ds/LP/LP3962.pdf; ComponentLink2Description: LP3962 Web Page; ComponentLink2URL: http://www.national.com/pf/LP/LP3962.html; ComponentLink3Description: T05D Package Page; ComponentLink3URL: http://www.national.com/packaging/folders/t05d.html
footprint T05D (TO, Thru-Hole, Vertical, Heatsink Mounted; 5 Bent Staggered Leads; Pitch 1.7 mm)
pins: 1 ~{SD} (in), 2 IN (power), 3 GND (power), 4 OUT (power), 5 ~{ERR} (oc)

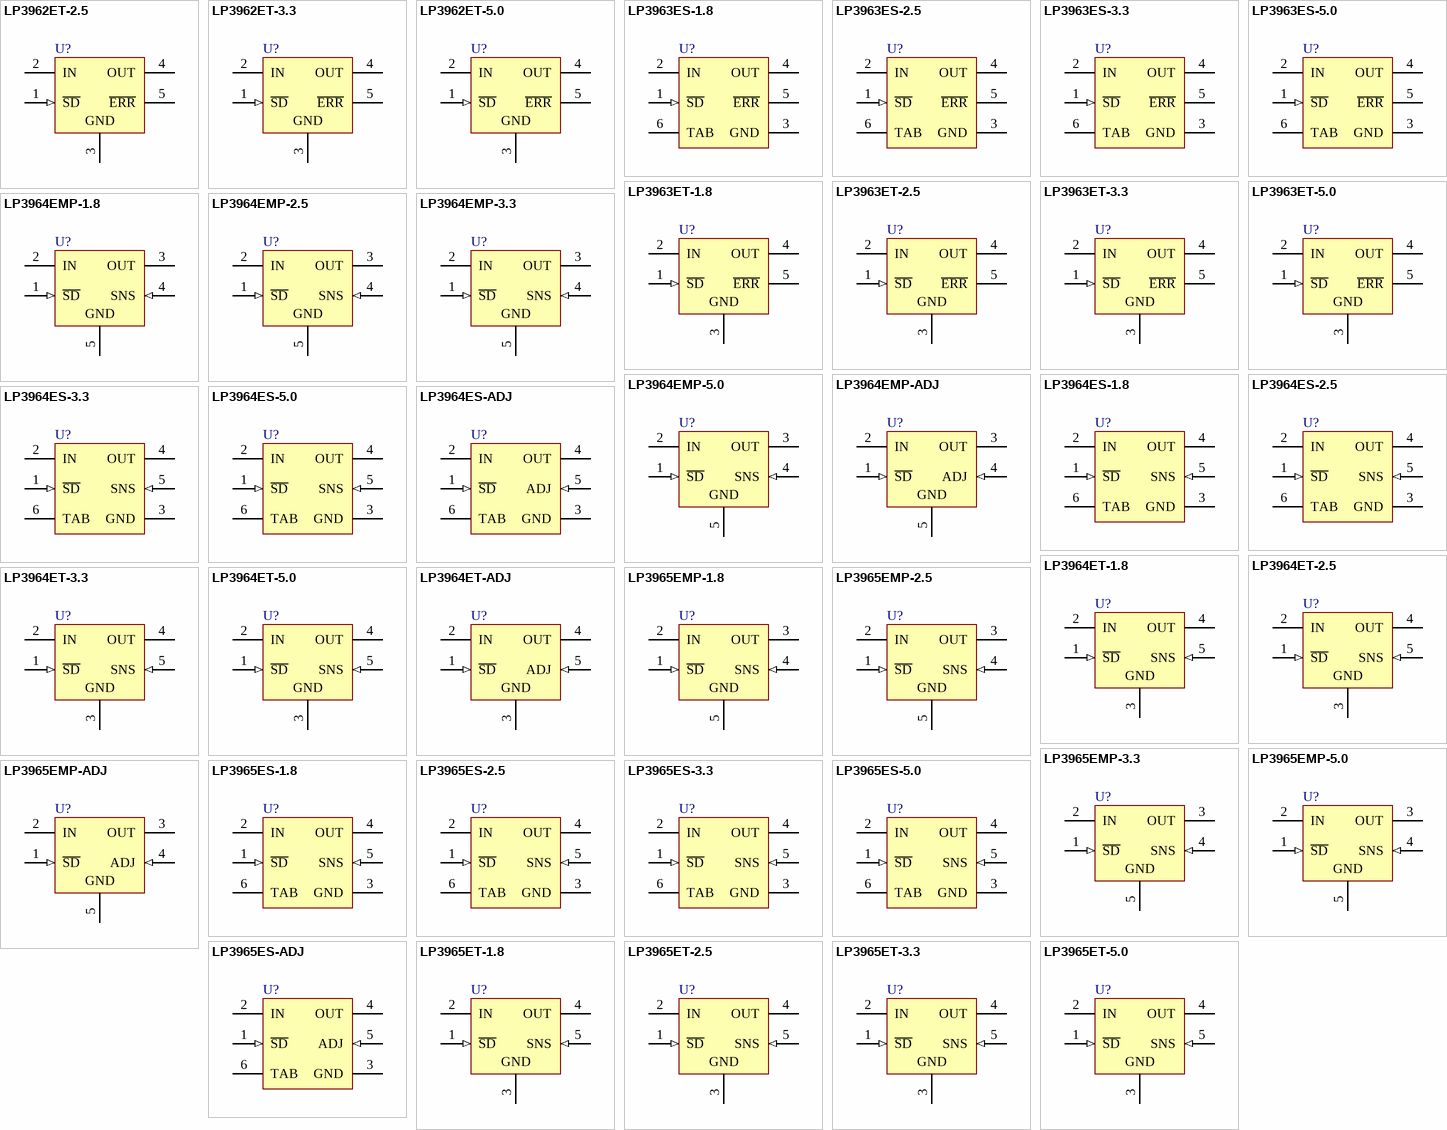
[diagram p21: symbols LP3962ET-2.5 to LP3965ET-5.0]

## LP3962ET-2.5
designator U?
1.5A Fast Ultra Low Dropout Linear Regulator; PartNumber: LP3962ET-2.5; Manufacturer: National Semiconductor; CompType: LDO IC; PackageTopMarking: NSUZXYTTE#*LP3962ET*-2.5; Published: 4-Dec-2008; DatasheetVersion: Sep-2006; PackageVersion: revA, Oct-1989; PackageReference: T05D; Publisher: Altium Limited; PackageDescription: TO-220, Molded, Stagger Bend, 5 Lead; RoHS: Y; PinCount: 5; DigiKeyPartNumber: LP3962ET-2.5-ND; ComponentLink1Description: LP3962 Datasheet; ComponentLink1URL: http://www.national.com/ds/LP/LP3962.pdf; ComponentLink2Description: LP3962 Web Page; ComponentLink2URL: http://www.national.com/pf/LP/LP3962.html; ComponentLink3Description: T05D Package Page; ComponentLink3URL: http://www.national.com/packaging/folders/t05d.html
footprint T05D (TO, Thru-Hole, Vertical, Heatsink Mounted; 5 Bent Staggered Leads; Pitch 1.7 mm)
pins: 1 ~{SD} (in), 2 IN (power), 3 GND (power), 4 OUT (power), 5 ~{ERR} (oc)

## LP3962ET-3.3
designator U?
1.5A Fast Ultra Low Dropout Linear Regulator; PartNumber: LP3962ET-3.3; Manufacturer: National Semiconductor; CompType: LDO IC; PackageTopMarking: NSUZXYTTE#*LP3962ET*-3.3; PowerWise: N; Published: 4-Dec-2008; DatasheetVersion: Sep-2006; PackageVersion: revA, Oct-1989; PackageReference: T05D; Publisher: Altium Limited; PackageDescription: TO-220, Molded, Stagger Bend, 5 Lead; RoHS: Y; PinCount: 5; DigiKeyPartNumber: LP3962ET-3.3-ND; ComponentLink1Description: LP3962 Datasheet; ComponentLink1URL: http://www.national.com/ds/LP/LP3962.pdf; ComponentLink2Description: LP3962 Web Page; ComponentLink2URL: http://www.national.com/pf/LP/LP3962.html; ComponentLink3Description: T05D Package Page; ComponentLink3URL: http://www.national.com/packaging/folders/t05d.html
footprint T05D (TO, Thru-Hole, Vertical, Heatsink Mounted; 5 Bent Staggered Leads; Pitch 1.7 mm)
pins: 1 ~{SD} (in), 2 IN (power), 3 GND (power), 4 OUT (power), 5 ~{ERR} (oc)

## LP3962ET-5.0
designator U?
1.5A Fast Ultra Low Dropout Linear Regulator; PartNumber: LP3962ET-5.0; Manufacturer: National Semiconductor; CompType: LDO IC; PackageTopMarking: NSUZXYTTE#*LP3962ET*-5.0; Published: 4-Dec-2008; DatasheetVersion: Sep-2006; PackageVersion: revA, Oct-1989; PackageReference: T05D; Publisher: Altium Limited; PackageDescription: TO-220, Molded, Stagger Bend, 5 Lead; RoHS: Y; PinCount: 5; DigiKeyPartNumber: LP3962ET-5.0-ND; ComponentLink1Description: LP3962 Datasheet; ComponentLink1URL: http://www.national.com/ds/LP/LP3962.pdf; ComponentLink2Description: LP3962 Web Page; ComponentLink2URL: http://www.national.com/pf/LP/LP3962.html; ComponentLink3Description: T05D Package Page; ComponentLink3URL: http://www.national.com/packaging/folders/t05d.html
footprint T05D (TO, Thru-Hole, Vertical, Heatsink Mounted; 5 Bent Staggered Leads; Pitch 1.7 mm)
pins: 1 ~{SD} (in), 2 IN (power), 3 GND (power), 4 OUT (power), 5 ~{ERR} (oc)

## LP3963ES-1.8
designator U?
3A Fast Ultra Low Dropout Linear Regulator; PartNumber: LP3963ES-1.8; Manufacturer: National Semiconductor; CompType: LDO IC; PackageTopMarking: NSUZXYTTE#*LP3963ES*-1.8; Published: 4-Dec-2008; DatasheetVersion: Sep-2006; PackageVersion: revD, Apr-2005; PackageReference: TS5B; Publisher: Altium Limited; PackageDescription: TO-263, Molded, .400 x .390 x .180in, 5 Lead, .067in Pitch, Surface Mount; RoHS: Y; PinCount: 5; DigiKeyPartNumber: LP3963ES-1.8-ND; Code_JEDEC: MO-169-AB; ComponentLink1Description: LP3963 Datasheet; ComponentLink1URL: http://www.national.com/ds/LP/LP3963.pdf; ComponentLink2Description: LP3963 Web Page; ComponentLink2URL: http://www.national.com/pf/LP/LP3963.html; ComponentLink3Description: TS5B Package Page; ComponentLink3URL: http://www.national.com/packaging/folders/ts5b.html
footprint TS5B_N (D2-PAK, 6-Leads, Body 8.6x10.2mm, Pitch 1.7mm, Lead Span 14.1mm, IPC Medium Density)
footprint TS5B_L (D2-PAK, 6-Leads, Body 8.6x10.2mm, Pitch 1.7mm, Lead Span 14.1mm, IPC High Density)
footprint TS5B_M (D2-PAK, 6-Leads, Body 8.6x10.2mm, Pitch 1.7mm, Lead Span 14.1mm, IPC Low Density)
pins: 1 ~{SD} (in), 2 IN (power), 3 GND (power), 4 OUT (power), 5 ~{ERR} (oc), 6 TAB (power)

## LP3963ES-2.5
designator U?
3A Fast Ultra Low Dropout Linear Regulator; PartNumber: LP3963ES-2.5; Manufacturer: National Semiconductor; CompType: LDO IC; PackageTopMarking: NSUZXYTTE#*LP3963ES*-2.5; PowerWise: N; Published: 4-Dec-2008; DatasheetVersion: Sep-2006; PackageVersion: revD, Apr-2005; PackageReference: TS5B; Publisher: Altium Limited; PackageDescription: TO-263, Molded, .400 x .390 x .180in, 5 Lead, .067in Pitch, Surface Mount; RoHS: O; PinCount: 5; DigiKeyPartNumber: LP3963ES-2.5-ND; Code_JEDEC: MO-169-AB; ComponentLink1Description: LP3963 Datasheet; ComponentLink1URL: http://www.national.com/ds/LP/LP3963.pdf; ComponentLink2Description: LP3963 Web Page; ComponentLink2URL: http://www.national.com/pf/LP/LP3963.html; ComponentLink3Description: TS5B Package Page; ComponentLink3URL: http://www.national.com/packaging/folders/ts5b.html
footprint TS5B_N (D2-PAK, 6-Leads, Body 8.6x10.2mm, Pitch 1.7mm, Lead Span 14.1mm, IPC Medium Density)
footprint TS5B_L (D2-PAK, 6-Leads, Body 8.6x10.2mm, Pitch 1.7mm, Lead Span 14.1mm, IPC High Density)
footprint TS5B_M (D2-PAK, 6-Leads, Body 8.6x10.2mm, Pitch 1.7mm, Lead Span 14.1mm, IPC Low Density)
pins: 1 ~{SD} (in), 2 IN (power), 3 GND (power), 4 OUT (power), 5 ~{ERR} (oc), 6 TAB (power)

## LP3963ES-3.3
designator U?
3A Fast Ultra Low Dropout Linear Regulator; PartNumber: LP3963ES-3.3; Manufacturer: National Semiconductor; CompType: LDO IC; PackageTopMarking: NSUZXYTTE#*LP3963ES*-3.3; PowerWise: N; Published: 4-Dec-2008; DatasheetVersion: Sep-2006; PackageVersion: revD, Apr-2005; PackageReference: TS5B; Publisher: Altium Limited; PackageDescription: TO-263, Molded, .400 x .390 x .180in, 5 Lead, .067in Pitch, Surface Mount; RoHS: O; PinCount: 5; DigiKeyPartNumber: LP3963ES-3.3-ND; Code_JEDEC: MO-169-AB; ComponentLink1Description: LP3963 Datasheet; ComponentLink1URL: http://www.national.com/ds/LP/LP3963.pdf; ComponentLink2Description: LP3963 Web Page; ComponentLink2URL: http://www.national.com/pf/LP/LP3963.html; ComponentLink3Description: TS5B Package Page; ComponentLink3URL: http://www.national.com/packaging/folders/ts5b.html
footprint TS5B_N (D2-PAK, 6-Leads, Body 8.6x10.2mm, Pitch 1.7mm, Lead Span 14.1mm, IPC Medium Density)
footprint TS5B_L (D2-PAK, 6-Leads, Body 8.6x10.2mm, Pitch 1.7mm, Lead Span 14.1mm, IPC High Density)
footprint TS5B_M (D2-PAK, 6-Leads, Body 8.6x10.2mm, Pitch 1.7mm, Lead Span 14.1mm, IPC Low Density)
pins: 1 ~{SD} (in), 2 IN (power), 3 GND (power), 4 OUT (power), 5 ~{ERR} (oc), 6 TAB (power)

## LP3963ES-5.0
designator U?
3A Fast Ultra Low Dropout Linear Regulator; PartNumber: LP3963ES-5.0; Manufacturer: National Semiconductor; CompType: LDO IC; PackageTopMarking: NSUZXYTTE#*LP3963ES*-5.0; Published: 4-Dec-2008; DatasheetVersion: Sep-2006; PackageVersion: revD, Apr-2005; PackageReference: TS5B; Publisher: Altium Limited; PackageDescription: TO-263, Molded, .400 x .390 x .180in, 5 Lead, .067in Pitch, Surface Mount; RoHS: O; PinCount: 5; DigiKeyPartNumber: LP3963ES-5.0-ND; Code_JEDEC: MO-169-AB; ComponentLink1Description: LP3963 Datasheet; ComponentLink1URL: http://www.national.com/ds/LP/LP3963.pdf; ComponentLink2Description: LP3963 Web Page; ComponentLink2URL: http://www.national.com/pf/LP/LP3963.html; ComponentLink3Description: TS5B Package Page; ComponentLink3URL: http://www.national.com/packaging/folders/ts5b.html
footprint TS5B_N (D2-PAK, 6-Leads, Body 8.6x10.2mm, Pitch 1.7mm, Lead Span 14.1mm, IPC Medium Density)
footprint TS5B_L (D2-PAK, 6-Leads, Body 8.6x10.2mm, Pitch 1.7mm, Lead Span 14.1mm, IPC High Density)
footprint TS5B_M (D2-PAK, 6-Leads, Body 8.6x10.2mm, Pitch 1.7mm, Lead Span 14.1mm, IPC Low Density)
pins: 1 ~{SD} (in), 2 IN (power), 3 GND (power), 4 OUT (power), 5 ~{ERR} (oc), 6 TAB (power)

## LP3963ET-1.8
designator U?
3A Fast Ultra Low Dropout Linear Regulator; PartNumber: LP3963ET-1.8; Manufacturer: National Semiconductor; CompType: LDO IC; PackageTopMarking: NSUZXYTTE#*LP3963ET*-1.8; Published: 4-Dec-2008; DatasheetVersion: Sep-2006; PackageVersion: revA, Oct-1989; PackageReference: T05D; Publisher: Altium Limited; PackageDescription: TO-220, Molded, Stagger Bend, 5 Lead; RoHS: Y; PinCount: 5; DigiKeyPartNumber: LP3963ET-1.8-ND; ComponentLink1Description: LP3963 Datasheet; ComponentLink1URL: http://www.national.com/ds/LP/LP3963.pdf; ComponentLink2Description: LP3963 Web Page; ComponentLink2URL: http://www.national.com/pf/LP/LP3963.html; ComponentLink3Description: T05D Package Page; ComponentLink3URL: http://www.national.com/packaging/folders/t05d.html
footprint T05D (TO, Thru-Hole, Vertical, Heatsink Mounted; 5 Bent Staggered Leads; Pitch 1.7 mm)
pins: 1 ~{SD} (in), 2 IN (power), 3 GND (power), 4 OUT (power), 5 ~{ERR} (oc)

## LP3963ET-2.5
designator U?
3A Fast Ultra Low Dropout Linear Regulator; PartNumber: LP3963ET-2.5; Manufacturer: National Semiconductor; CompType: LDO IC; PackageTopMarking: NSUZXYTTE#*LP3963ET*-2.5; Published: 4-Dec-2008; DatasheetVersion: Sep-2006; PackageVersion: revA, Oct-1989; PackageReference: T05D; Publisher: Altium Limited; PackageDescription: TO-220, Molded, Stagger Bend, 5 Lead; RoHS: Y; PinCount: 5; DigiKeyPartNumber: LP3963ET-2.5-ND; ComponentLink1Description: LP3963 Datasheet; ComponentLink1URL: http://www.national.com/ds/LP/LP3963.pdf; ComponentLink2Description: LP3963 Web Page; ComponentLink2URL: http://www.national.com/pf/LP/LP3963.html; ComponentLink3Description: T05D Package Page; ComponentLink3URL: http://www.national.com/packaging/folders/t05d.html
footprint T05D (TO, Thru-Hole, Vertical, Heatsink Mounted; 5 Bent Staggered Leads; Pitch 1.7 mm)
pins: 1 ~{SD} (in), 2 IN (power), 3 GND (power), 4 OUT (power), 5 ~{ERR} (oc)

## LP3963ET-3.3
designator U?
3A Fast Ultra Low Dropout Linear Regulator; PartNumber: LP3963ET-3.3; Manufacturer: National Semiconductor; CompType: LDO IC; PackageTopMarking: NSUZXYTTE#*LP3963ET*-3.3; Published: 4-Dec-2008; DatasheetVersion: Sep-2006; PackageVersion: revA, Oct-1989; PackageReference: T05D; Publisher: Altium Limited; PackageDescription: TO-220, Molded, Stagger Bend, 5 Lead; RoHS: Y; PinCount: 5; DigiKeyPartNumber: LP3963ET-3.3-ND; ComponentLink1Description: LP3963 Datasheet; ComponentLink1URL: http://www.national.com/ds/LP/LP3963.pdf; ComponentLink2Description: LP3963 Web Page; ComponentLink2URL: http://www.national.com/pf/LP/LP3963.html; ComponentLink3Description: T05D Package Page; ComponentLink3URL: http://www.national.com/packaging/folders/t05d.html
footprint T05D (TO, Thru-Hole, Vertical, Heatsink Mounted; 5 Bent Staggered Leads; Pitch 1.7 mm)
pins: 1 ~{SD} (in), 2 IN (power), 3 GND (power), 4 OUT (power), 5 ~{ERR} (oc)

## LP3963ET-5.0
designator U?
3A Fast Ultra Low Dropout Linear Regulator; PartNumber: LP3963ET-5.0; Manufacturer: National Semiconductor; CompType: LDO IC; PackageTopMarking: NSUZXYTTE#*LP3963ET*-5.0; Published: 4-Dec-2008; DatasheetVersion: Sep-2006; PackageVersion: revA, Oct-1989; PackageReference: T05D; Publisher: Altium Limited; PackageDescription: TO-220, Molded, Stagger Bend, 5 Lead; RoHS: Y; PinCount: 5; DigiKeyPartNumber: LP3963ET-5.0-ND; ComponentLink1Description: LP3963 Datasheet; ComponentLink1URL: http://www.national.com/ds/LP/LP3963.pdf; ComponentLink2Description: LP3963 Web Page; ComponentLink2URL: http://www.national.com/pf/LP/LP3963.html; ComponentLink3Description: T05D Package Page; ComponentLink3URL: http://www.national.com/packaging/folders/t05d.html
footprint T05D (TO, Thru-Hole, Vertical, Heatsink Mounted; 5 Bent Staggered Leads; Pitch 1.7 mm)
pins: 1 ~{SD} (in), 2 IN (power), 3 GND (power), 4 OUT (power), 5 ~{ERR} (oc)